# EAGLE library part TCA9548A (library texas-instruments)
I2C SW 8CH W/RESET
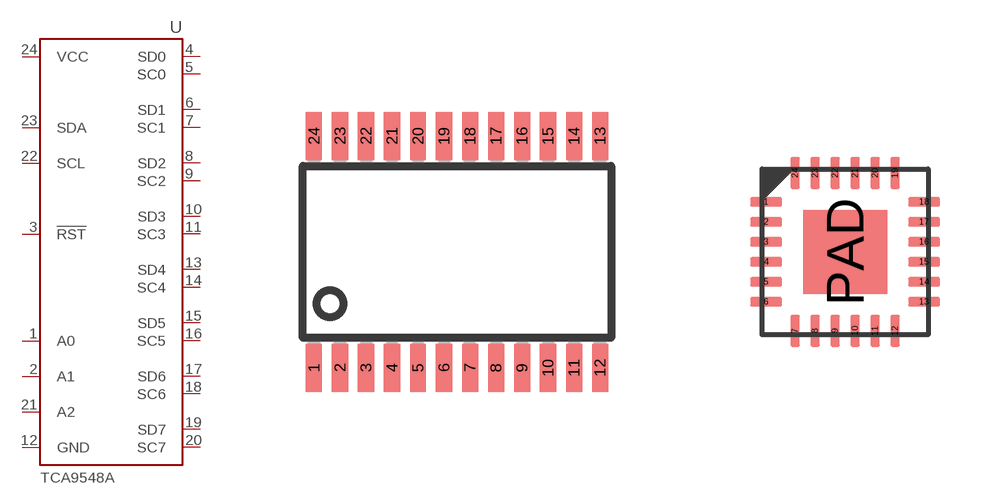
[diagram p39: symbol with the pads of PW_R-PDSO-G24; footprints PW_R-PDSO-G24, VQFN-24-RGE-EP]

Designator prefix U

## TCA9548ASO24 (DIGIKEY: 296-34905-1-ND; MPN: TCA9548APWR; P1I: o)  [PW_R-PDSO-G24]
1  A0
2  A1
3  !RST
4  SD0
5  SC0
6  SD1
7  SC1
8  SD2
9  SC2
10  SD3
11  SC3
12  GND
13  SD4
14  SC4
15  SD5
16  SC5
17  SD6
18  SC6
19  SD7
20  SC7
21  A2
22  SCL
23  SDA
24  VCC

## TCA9548A (DIGIKEY: 296-39222-1-ND; MPN: TCA9548ARGER; P1I: o)  [VQFN-24-RGE-EP]
1  SD0
2  SC0
3  SD1
4  SC1
5  SD2
6  SC2
7  SD3
8  SC3
9  GND
10  SD4
11  SC4
12  SD5
13  SC5
14  SD6
15  SC6
16  SD7
17  SC7
18  A2
19  SCL
20  SDA
21  VCC
22  A0
23  A1
24  !RST
PAD  GND

## Footprint PW_R-PDSO-G24 (pad centres in mm)
PLASTIC SMALL-OUTLINE PACKAGE SO 24 JEDEC MO-153, PW Type Source: www.ti.com/.. slvs087l.pdf
smd 0.4 x 1.2: 1 -3.575,-2.9; 2 -2.925,-2.9; 3 -2.275,-2.9; 4 -1.625,-2.9; 5 -0.975,-2.9; 6 -0.325,-2.9; 7 0.325,-2.9; 8 0.975,-2.9; 9 1.625,-2.9; 10 2.275,-2.9; 11 2.925,-2.9; 12 3.575,-2.9; 13 3.575,2.9; 14 2.925,2.9; 15 2.275,2.9; 16 1.625,2.9; 17 0.975,2.9; 18 0.325,2.9; 19 -0.325,2.9; 20 -0.975,2.9; 21 -1.625,2.9; 22 -2.275,2.9; 23 -2.925,2.9; 24 -3.575,2.9

## Footprint VQFN-24-RGE-EP (pad centres in mm)
smd 0.8 x 0.23: 1 -1.975,1.25; 2 -1.975,0.75; 3 -1.975,0.25; 4 -1.975,-0.25; 5 -1.975,-0.75; 6 -1.975,-1.25; 13 1.975,-1.25; 14 1.975,-0.75; 15 1.975,-0.25; 16 1.975,0.25; 17 1.975,0.75; 18 1.975,1.25
smd 0.23 x 0.8: 7 -1.25,-1.975; 8 -0.75,-1.975; 9 -0.25,-1.975; 10 0.25,-1.975; 11 0.75,-1.975; 12 1.25,-1.975; 19 1.25,1.975; 20 0.75,1.975; 21 0.25,1.975; 22 -0.25,1.975; 23 -0.75,1.975; 24 -1.25,1.975
smd 2.1 x 2.1: PAD 0,0